# EAGLE library part LED-RGB (library firefly)
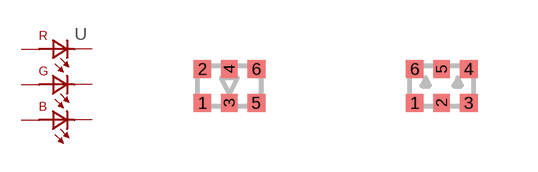
[diagram p16: symbol with the pads of SMLP36; footprints SMLP36, SMLP36-0604]

Designator prefix -

## LED-RGB  [SMLP36]
1  BC  pas
2  BA  pas
3  RC  pas
4  RA  pas
5  GC  pas
6  GA  pas

## LED-RGBSMPL36-0604  [SMLP36-0604]
1  BA  pas
2  RA  pas
3  GA  pas
4  GC  pas
5  RC  pas
6  BC  pas

## Footprint SMLP36 (pad centres in mm)
smd 0.45 x 0.45: 1 -0.675,-0.425; 2 -0.675,0.425; 5 0.675,-0.425; 6 0.675,0.425
smd 0.4 x 0.45: 3 0,-0.425; 4 0,0.425

## Footprint SMLP36-0604 (pad centres in mm)
smd 0.45 x 0.45: 1 -0.675,-0.425; 3 0.675,-0.425; 4 0.675,0.425; 6 -0.675,0.425
smd 0.4 x 0.45: 2 0,-0.425; 5 0,0.425